# Altium footprint library ESP32 Platform.PcbLib: 36 footprints (part 2 of 3)
Each footprint in its own frame and in the unit in brackets; x right, y up, seen from the top. Pads: shape width x height; smd on the part's side, far side on the other; paste and mask are expansions set on the pad; w line width, h text height; cw(c..) or ccw(c..) is an arc to the next point about the centre after c.
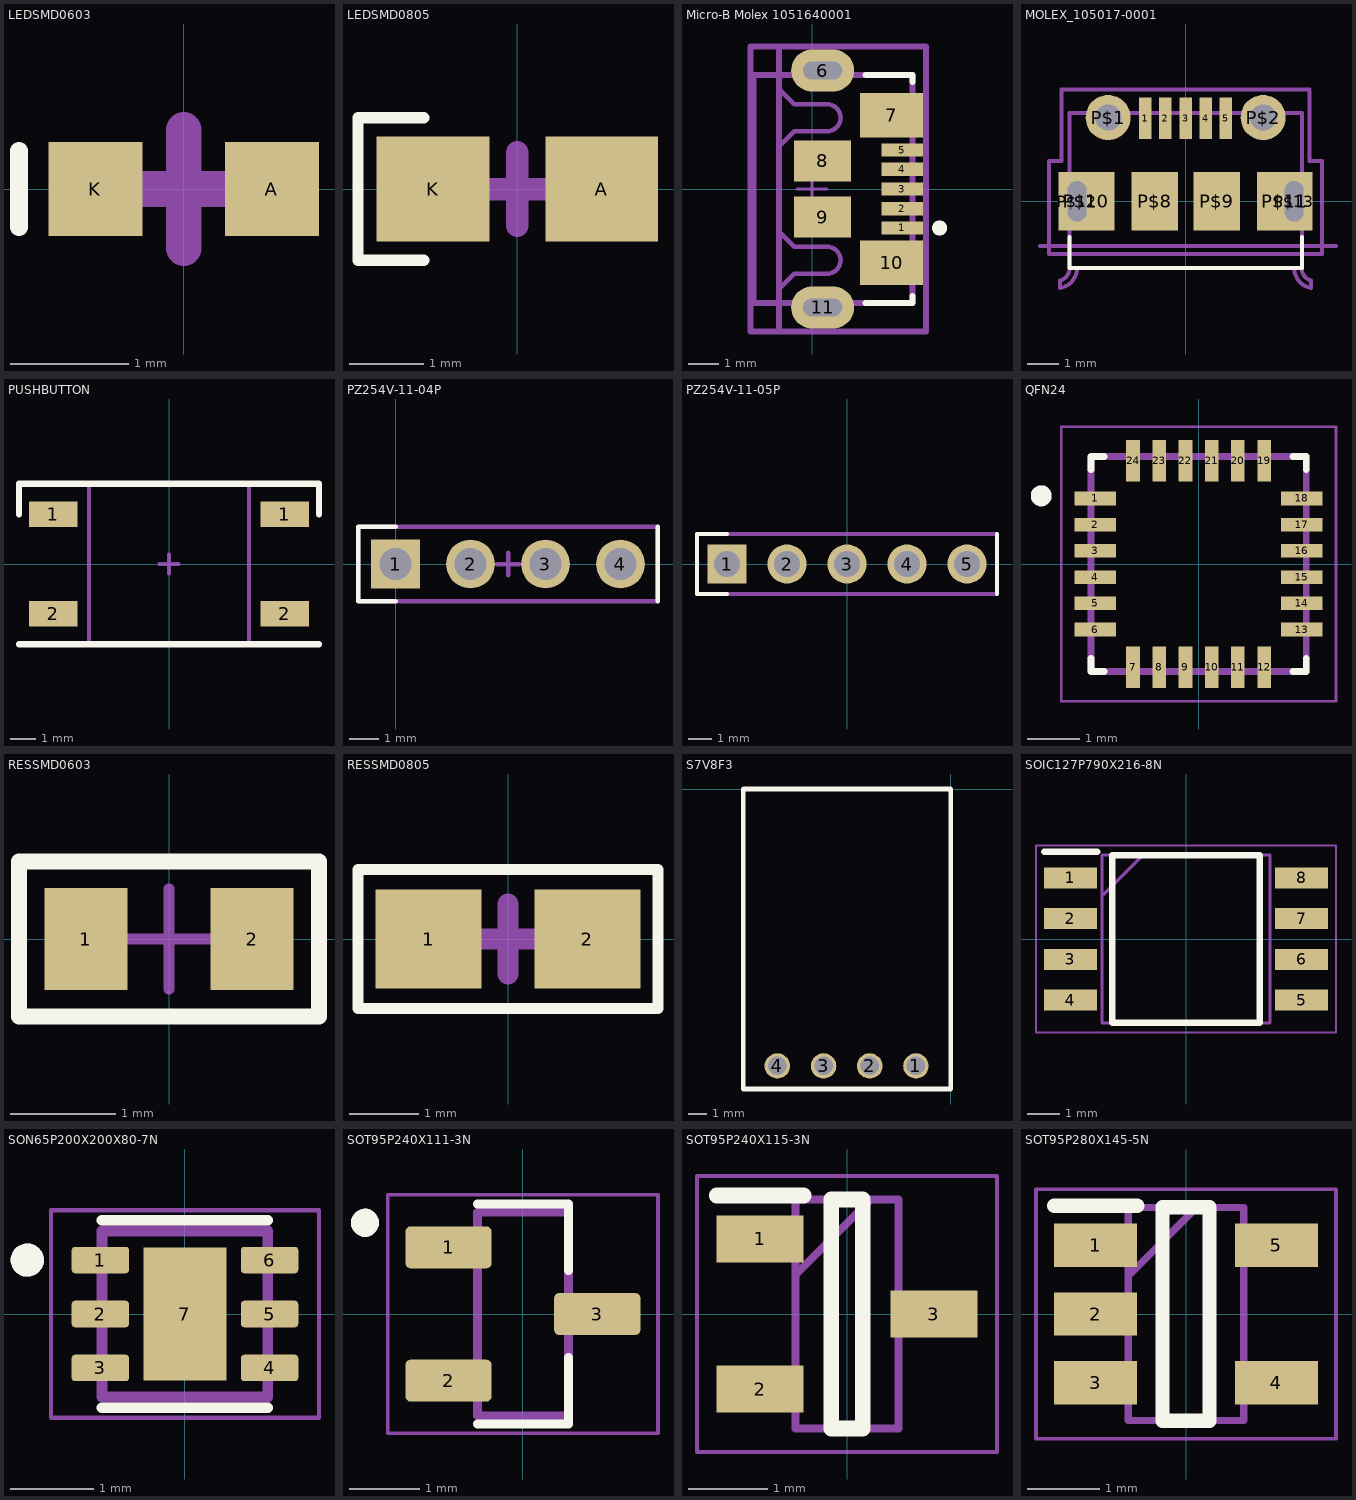
[diagram p1: the footprints below, top view; thin cyan lines are the x and y axes]

## LEDSMD0603 [mm] "LED SMD 0603"
height 0.7
pads (2):
  rect 0.8x0.8 smd: A(0.75,0) K(-0.75,0)
Top Overlay:
  lines w0.15: -1.4,-0.325 -1.4,0.325
Mechanical 15:
  lines w0.305: -0.5,0 0.5,0 ; 0,-0.5 0,0.5
3D body "LED_0603_G.STEP": height 0.6, standoff 0, extent -0.8,-0.4 0.8,0.4

## LEDSMD0805 [mil] "Pasivo 0805"
height 27.56
pads (2):
  rect 60x56 smd: A(45,0) K(-45,0)
Top Overlay:
  lines w6: -50,-38 -85,-38 -85,38 -50,38
Mechanical 15:
  lines w12: -19.69,0 19.68,0 ; 0,-19.68 0,19.69
3D body "ALSRobot-LED 0805.step": height 43.31, standoff 0, extent -39.77,-24.61 39.75,24.6

## Micro-B Molex 1051640001 [mm]
pads (11):
  rect 1.38x0.45 smd paste+0 mask+0: 1(3.01,-1.3) 2(3.01,-0.65) 3(3.01,0) 4(3.01,0.65) 5(3.01,1.3)
  rrect100% 2.1x1.4 hole 0.6 slot 1.3 at 0 deg paste-1000 mask+0: 6(0.35,3.95) 11(0.35,-3.95)
  rect 2.1x1.475 smd paste+0 mask+0: 7(2.65,2.462) 10(2.65,-2.462)
  rect 1.9x1.375 smd paste+0 mask+0: 8(0.35,0.937) 9(0.35,-0.937)
Top Overlay:
  circle w0.25: c4.25,-1.3 r0.125
  lines w0.2: 1.775,-3.8 3.35,-3.8 3.35,-3.575 ; 1.775,3.8 3.35,3.8 3.35,3.575
Top Assembly:
  lines w0.15: -1.1,-3.325 -0.6,-2.825 0.5,-2.825 ccw(c0.499,-2.375) 0.5,-1.925 -0.6,-1.925 -1.1,-1.425 ; -1.1,1.425 -0.6,1.925 0.5,1.925 ccw(c0.499,2.375) 0.5,2.825 -0.6,2.825 -1.1,3.325
Mechanical 10:
  lines w0.2: -2.05,-4.75 3.8,-4.75 3.8,4.75 -2.05,4.75 -2.05,-4.75
  text ".Designator" at 0.875,0.188 h1
Mechanical 12:
  lines w0.2: -1.1,-4.75 -1.1,4.75 ; -1.95,-3.8 3.35,-3.8 3.35,3.8 -1.95,3.8 -1.95,-3.8
Mechanical 15:
  lines w0.1: -0.5,0 0.5,0 ; 0,-0.5 0,0.5
  lines w0.2: -2.05,-4.75 3.8,-4.75 3.8,4.75 -2.05,4.75 -2.05,-4.75
3D body "1051640001--3DModel-STEP-56544.STEP": height 2.15, standoff -1.1, extent -2,-4.1 3.15,4.1

## MOLEX_105017-0001 [mm]
pads (13):
  rect 0.4x1.35 smd: 1(-1.3,2.675) 2(-0.65,2.675) 3(0,2.675) 4(0.65,2.675) 5(1.3,2.675)
  round 1.45 hole 0.85: P$1(-2.5,2.7) P$2(2.5,2.7)
  rect 1.5x1.9 smd: P$8(-1,0) P$9(1,0)
  rect 1.8x1.9 smd: P$10(-3.2,0) P$11(3.2,0)
  oval 0.8x1.6 hole 0.6 slot 1.3 at 90 deg: P$12(-3.5,0) P$13(3.5,0)
Top Overlay:
  lines w0.127: -3.75,-1.15 -3.75,-2.15 3.75,-2.15 3.75,-1.15
Mechanical 13:
  lines w0.127: -4.7,-1.45 4.85,-1.45 ; -4.05,-2.8 -4.05,-2.55 ; -4.049,-2.55 ccw(c-4.128,-2.179) -3.75,-2.153 ; -4.047,-2.8 ccw(c-4.162,-2.147) -3.5,-2.147 ; -3.75,-2.15 -3.75,2.85 3.75,2.85 3.75,-2.15
Mechanical 14:
  lines w0.127: 3.5,-2.147 ccw(c4.162,-2.147) 4.047,-2.8 ; 3.75,-2.153 ccw(c4.128,-2.179) 4.049,-2.55 ; 4.05,-2.8 4.05,-2.55
Mechanical 15:
  lines w0.127: -4.4,-1.7 -4.4,1.3 -4,1.3 -4,3.6 4,3.6 4,1.3 4.4,1.3 4.4,-1.7 -4.4,-1.7
3D body "1050170001--3DModel-STEP-1.STEP": height 2.75, standoff -0.73, extent -4,-2.519 4,2.881
3D body: height 2.82, standoff 0, extent -2.286,-3.175 -2.286,-3.175
3D body: height 2.82, standoff 0, extent -2.5,2.7 -2.5,2.7
3D body: height 2.82, standoff 0, extent 4.953,-3.048 4.953,-3.048
3D body: height 2.82, standoff 0, extent -2.794,3.937 -2.794,3.937
3D body: height 2.82, standoff 0, extent 0,0 0,0

## PUSHBUTTON [mm]
pads (4):
  rect 1.9x1 smd: 1(-4.55,1.95) 1(4.55,1.95) 2(-4.55,-1.95) 2(4.55,-1.95)
Top Overlay:
  lines w0.254: -5.9,-3.15 5.9,-3.15 ; -5.9,1.95 -5.9,3.15 5.9,3.15 5.9,1.95
Bottom Assembly:
  lines w0.152: -3.15,-3.15 3.15,-3.15 3.15,3.15 -3.15,3.15 -3.15,-3.15
  text ".Designator" at -3.174,-0.212 h0.64
Mechanical 15:
  lines w0.152: -0.381,0 0.381,0 ; 0,-0.381 0,0.381
3D body "TL3301AF160QG--3DModel-STEP-613395.STEP": height 5.1, standoff 0, extent -5,-3 5,3

## PZ254V-11-04P [mm]
pads (4):
  rect 1.65x1.65 hole 1.1: 1(0,0)
  round 1.65 hole 1.1: 2(2.54,0) 3(5.08,0) 4(7.62,0)
Top Overlay:
  lines w0.152: 0,-1.27 -1.27,-1.27 -1.27,1.27 0,1.27 ; 8.89,-1.27 8.89,1.27
Bottom Assembly:
  circle w0.533: c0,0 r0.254
  lines w0.152: -1.27,-1.27 8.89,-1.27 8.89,1.27 -1.27,1.27 -1.27,-1.27
  text ".Designator" at 0.636,-0.212 h0.64
Mechanical 15:
  lines w0.152: 3.429,0 4.191,0 ; 3.81,-0.381 3.81,0.381
3D body "61300411121.stp": height 7.27, standoff -4.27, extent -1.27,-1.27 8.89,1.27

## PZ254V-11-05P [mm]
pads (5):
  rect 1.65x1.65 hole 1.1: 1(-5.08,0)
  round 1.65 hole 1.1: 2(-2.54,0) 3(0,0) 4(2.54,0) 5(5.08,0)
Top Overlay:
  lines w0.152: -5.08,-1.27 -6.35,-1.27 -6.35,1.27 -5.08,1.27 ; 6.35,-1.27 6.35,1.27
Bottom Assembly:
  circle w0.533: c-5.08,0 r0.254
  lines w0.152: -6.35,-1.27 -6.35,1.27 6.35,1.27 6.35,-1.27 -6.35,-1.27
  text ".Designator" at -3.174,-0.212 h0.64
Mechanical 15:
  lines w0.152: -0.381,0 0.381,0 ; 0,-0.381 0,0.381
3D body "Pin Header 1x5 TH Pitch 2.54mm.stp": height 9.51, standoff -3.19, extent -6.35,-1.27 6.35,1.27

## QFN24 [mm]
pads (24):
  rect 0.79x0.26 smd: 1(-1.97,1.25) 2(-1.97,0.75) 3(-1.97,0.25) 4(-1.97,-0.25) 5(-1.97,-0.75) 6(-1.97,-1.25) 13(1.97,-1.25) 14(1.97,-0.75) 15(1.97,-0.25) 16(1.97,0.25) 17(1.97,0.75) 18(1.97,1.25)
  rect 0.26x0.79 smd: 7(-1.25,-1.97) 8(-0.75,-1.97) 9(-0.25,-1.97) 10(0.25,-1.97) 11(0.75,-1.97) 12(1.25,-1.97) 19(1.25,1.97) 20(0.75,1.97) 21(0.25,1.97) 22(-0.25,1.97) 23(-0.75,1.97) 24(-1.25,1.97)
Top Overlay:
  circle w0.2: c-3,1.3 r0.1
  lines w0.127: -2.05,-1.8 -2.05,-2.05 -1.8,-2.05 ; -2.05,1.8 -2.05,2.05 -1.8,2.05 ; 1.8,-2.05 2.05,-2.05 2.05,-1.8 ; 1.8,2.05 2.05,2.05 2.05,1.8
Mechanical 13:
  lines w0.127: -2.05,-2.05 2.05,-2.05 2.05,2.05 -2.05,2.05 -2.05,-2.05
Mechanical 15:
  lines w0.05: -2.62,-2.62 2.62,-2.62 2.62,2.62 -2.62,2.62 -2.62,-2.62
3D body "step_temp.STEP": height 0.93, standoff -0.02, extent -2,-2 2,2

## RESSMD0603 [mil] "Pasivo 0603"
height 21.65
pads (2):
  rect 31x38 smd: 1(-31,0) 2(31,0)
Top Overlay:
  lines w6: -56,-29 -56,29 56,29 56,-29 -56,-29
Mechanical 15:
  lines w3.94: -18.7,0 18.7,0 ; 0,-18.7 0,18.7
3D body "0603.STEP": height 17.13, standoff -0.98, extent -31.49,-16 31.5,15.5

## RESSMD0805 [mil] "Pasivo 0805"
height 27.56
pads (2):
  rect 60x56 smd: 1(-45,0) 2(45,0)
Top Overlay:
  lines w6: -85,-39.37 -85,39.37 85,39.37 85,-39.37 -85,-39.37
Mechanical 15:
  lines w12: -19.69,0 19.68,0 ; 0,-19.68 0,19.69
3D body "0805.STEP": height 15.35, standoff -0.79, extent -39.5,-24.5 39.24,24.71

## S7V8F3 [mm] "S7V8F3 Pololu Buck-Boost"
pads (4):
  round 1.4 hole 1.02: 1(-1.91,-15.23) 2(-4.45,-15.23) 3(-6.99,-15.23) 4(-9.53,-15.23)
Top Overlay:
  lines w0.254: -11.4,-16.5 -11.4,0 0,0 0,-16.5 -11.4,-16.5
3D body: height 0.25, standoff 0, extent -5.842,-8.382 -5.842,-8.382
3D body: height 0.25, standoff 0, extent 0,0 0,0
3D body: height 0.25, standoff 0, extent -6.99,-15.23 -6.99,-15.23
3D body: height 0.25, standoff 0, extent -10.16,-2.54 -10.16,-2.54
3D body: height 0.25, standoff 0, extent -5.842,-6.35 -5.842,-6.35
3D body "pololu-step-up-step-down-voltage-regulator-s7v8fx.step": height 2.82, standoff 0, extent -11.303,-16.51 0.127,0

## SOIC127P790X216-8N [mm]
pads (8):
  rect 1.65x0.65 smd: 1(-3.6,1.905) 2(-3.6,0.635) 3(-3.6,-0.635) 4(-3.6,-1.905) 5(3.6,-1.905) 6(3.6,-0.635) 7(3.6,0.635) 8(3.6,1.905)
Top Overlay:
  lines w0.2: -4.419,2.718 -2.769,2.718 ; -2.3,-2.615 -2.3,2.615 2.3,2.615 2.3,-2.615 -2.3,-2.615
Mechanical 15:
  lines w0.1: -2.615,1.345 -1.345,2.615 ; -2.615,-2.615 -2.615,2.615 2.615,2.615 2.615,-2.615 -2.615,-2.615
Mechanical 20:
  lines w0.05: -4.675,-2.915 -4.675,2.915 4.675,2.915 4.675,-2.915 -4.675,-2.915
3D body: height 2.82, standoff 0, extent 0.686,0.584 0.686,0.584
3D body: height 2.82, standoff 0, extent -1.016,1.245 -1.016,1.245
3D body "WIN_SS-8_WIN.step": height 2.16, standoff 0, extent -4.051,-2.679 4.051,2.705

## SON65P200X200X80-7N [mm]
pads (7):
  rrect25% 0.69x0.32 smd: 1(-1.02,0.65) 2(-1.02,0) 3(-1.02,-0.65) 4(1.02,-0.65) 5(1.02,0) 6(1.02,0.65)
  rect 1x1.6 smd paste-2: 7(0,0)
Top Overlay:
  circle w0.2: c-1.9,0.65 r0.1
  lines w0.127: -1,-1.13 1,-1.13 ; -1,1.13 1,1.13
Top Paste:
  region: 0.316,-0.506 -0.316,-0.506 -0.316,0.506 0.316,0.506
Mechanical 13:
  circle w0.2: c-1.9,0.65 r0.1
  lines w0.127: -1,-1 1,-1 1,1 -1,1 -1,-1
Mechanical 15:
  lines w0.05: -1.615,-1.25 1.615,-1.25 1.615,1.25 -1.615,1.25 -1.615,-1.25
3D body "LP5912-3.3DRVT.STEP": height 0.72, standoff -0.03, extent -1,-1 1,1

## SOT95P240X111-3N [mm]
pads (3):
  rrect25% 1.23x0.6 smd: 1(-1.06,0.95) 2(-1.06,-0.95) 3(1.06,0)
Top Overlay:
  circle w0.2: c-2.25,1.3 r0.1
  lines w0.127: -0.65,-1.57 0.65,-1.57 0.65,-0.62 ; -0.65,1.57 0.65,1.57 0.65,0.62
Mechanical 13:
  circle w0.2: c-2.25,1.3 r0.1
  lines w0.127: -0.65,-1.45 -0.65,1.45 0.65,1.45 0.65,-1.45 -0.65,-1.45
Mechanical 15:
  lines w0.05: -1.925,-1.7 1.925,-1.7 1.925,1.7 -1.925,1.7 -1.925,-1.7
3D body "step_temp.STEP": height 0.65, standoff -0.55, extent -1.46,-1.2 1.46,1.2

## SOT95P240X115-3N [mm]
pads (3):
  rect 1.1x0.6 smd: 1(-1.1,0.95) 2(-1.1,-0.95) 3(1.1,0)
Top Overlay:
  lines w0.2: -1.65,1.5 -0.55,1.5 ; -0.2,-1.45 0.2,-1.45 0.2,1.45 -0.2,1.45 -0.2,-1.45
Mechanical 15:
  lines w0.1: -0.65,0.5 0.3,1.45 ; -0.65,-1.45 0.65,-1.45 0.65,1.45 -0.65,1.45 -0.65,-1.45
Mechanical 20:
  lines w0.05: -1.9,-1.75 1.9,-1.75 1.9,1.75 -1.9,1.75 -1.9,-1.75
3D body "SS8050-G.stp": height 5.8, standoff -4.65, extent -10,-3.376 10,3.376

## SOT95P280X145-5N [mm]
pads (5):
  rect 1.15x0.6 smd: 1(-1.25,0.95) 2(-1.25,0) 3(-1.25,-0.95) 4(1.25,-0.95) 5(1.25,0.95)
Top Overlay:
  lines w0.2: -1.825,1.5 -0.675,1.5 ; -0.325,-1.475 -0.325,1.475 0.325,1.475 0.325,-1.475 -0.325,-1.475
Mechanical 15:
  lines w0.1: -0.8,0.525 0.15,1.475 ; -0.8,-1.475 -0.8,1.475 0.8,1.475 0.8,-1.475 -0.8,-1.475
Mechanical 20:
  lines w0.05: -2.075,-1.725 -2.075,1.725 2.075,1.725 2.075,-1.725 -2.075,-1.725